# Altium footprint library AMS_LV.PcbLib: 24 footprints (part 2 of 2)
Each footprint in its own frame and in the unit in brackets; x right, y up, seen from the top. Pads: shape width x height; smd on the part's side, far side on the other; paste and mask are expansions set on the pad; w line width, h text height; cw(c..) or ccw(c..) is an arc to the next point about the centre after c.
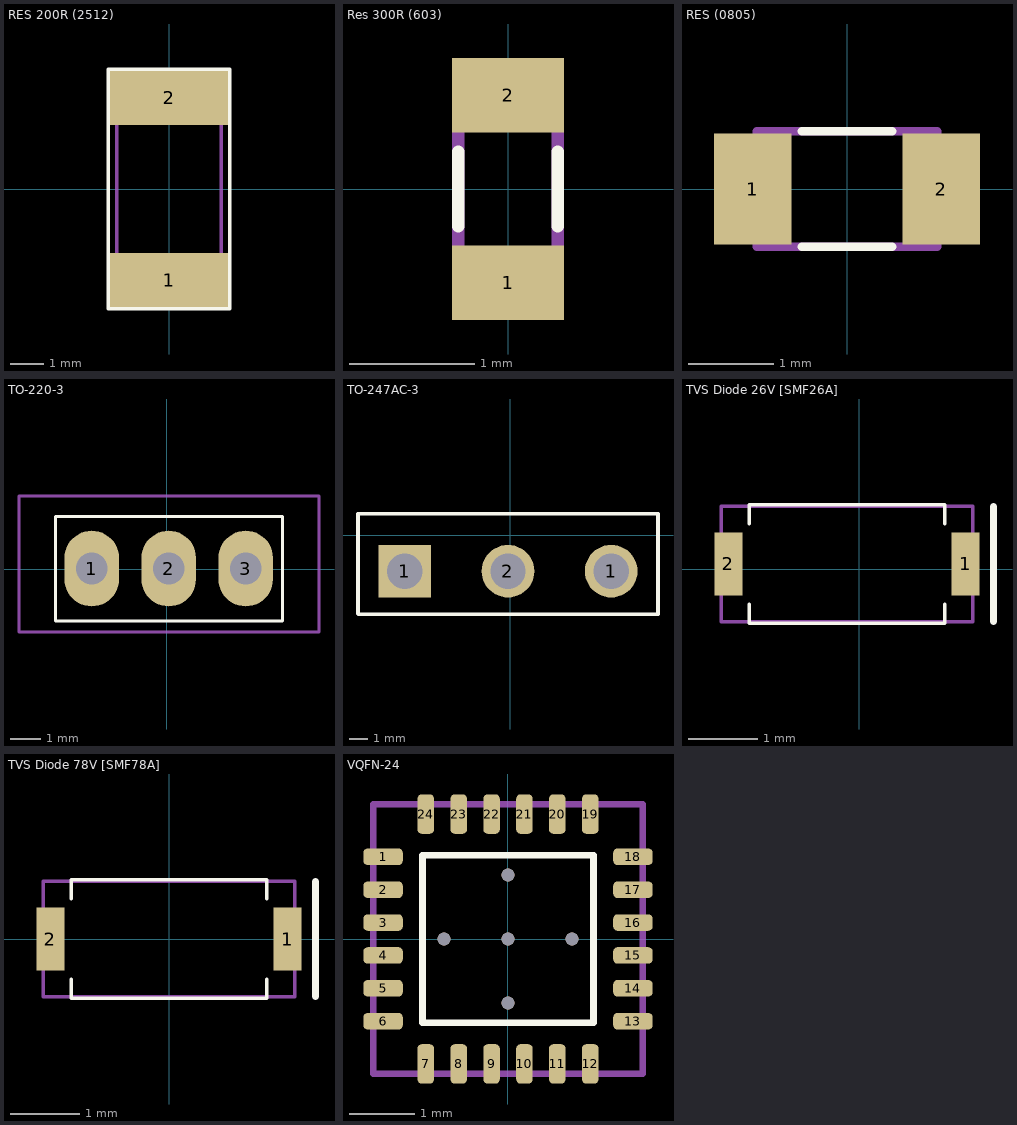
[diagram p1: the footprints below, top view; thin cyan lines are the x and y axes]

## RES 200R (2512) [mm]
pads (2):
  rect 3.5x1.6 smd: 1(0,-2.7) 2(0,2.7)
Top Overlay:
  lines w0.1: -1.8,-3.55 1.8,-3.55 1.8,3.55 0.937,3.55 -0.787,3.55 -1.8,3.55 -1.8,-3.55
Mechanical 13:
  lines w0.1: -1.55,3.15 -1.55,3.15 ; -1.55,3.15 1.55,3.15 1.55,-3.15 -1.55,-3.15 -1.55,3.15
3D body "crm2512-jw-201elf.stp": height -0.05, standoff -0.65, extent -1.55,-3.15 1.55,3.15

## Res 300R (603) [mm]
pads (2):
  rect 0.9x0.6 smd: 1(0,-0.75) 2(0,0.75)
Top Overlay:
  lines w0.1: -0.4,-0.3 -0.4,0.3 ; 0.4,-0.3 0.4,0.3
Mechanical 13:
  lines w0.1: -0.4,-0.8 -0.4,0.8 0.4,0.8 0.4,-0.8 -0.4,-0.8
3D body "cr0603-fx-3000elf.stp": height 0.45, standoff 0, extent -0.4,-0.8 0.4,0.8

## RES (0805) [mm]
pads (2):
  rect 0.9x1.3 smd: 1(-1.1,0) 2(1.1,0)
Top Overlay:
  lines w0.1: -0.525,-0.675 0.525,-0.675 ; -0.525,0.675 0.525,0.675
Mechanical 13:
  lines w0.1: -1.05,-0.675 1.05,-0.675 1.05,0.675 -1.05,0.675 -1.05,-0.675
3D body "RESC-0805.stp": height 0.6, standoff 0, extent -1.05,-0.675 1.05,0.675

## TO-220-3 [mm]
pads (3):
  oval 1.8x2.5 hole 1.05: 1(-2.475,0.025) 2(0.065,0.025) 3(2.605,0.025)
Top Overlay:
  lines w0.1: -3.675,-1.7 3.825,-1.7 3.825,1.75 -3.675,1.75 -3.675,-1.7
Mechanical 13:
  lines w0.1: -4.875,-2.075 -4.875,2.425 5.025,2.425 5.025,-2.075 -4.875,-2.075
3D body "ALSRobot-TO-220-3.step": height 19.8, standoff -8.98, extent -4.885,-2.075 5.015,2.425

## TO-247AC-3 [mm]
pads (3):
  rect 2.79x2.79 hole 1.86: 1(-5.588,-1.905)
  round 2.79 hole 1.86: 1(5.332,-1.905) 2(-0.128,-1.905)
Top Overlay:
  lines w0.2: -8.063,-4.15 -8.063,1.13 7.807,1.13 7.807,-4.18 -8.033,-4.18
Mechanical 13:
  lines w0.1: -8.063,-4.18 -8.063,1.13 7.807,1.13 7.807,-4.18 -8.063,-4.18
3D body "VS-40CPQ045-N3.stp": height 24.21, standoff -40.41, extent -7.918,-4.18 7.662,1.13

## TVS Diode 26V [SMF26A] [mm]
pads (2):
  rect 0.4x0.9 smd: 1(1.525,0.075) 2(-1.875,0.075)
Top Overlay:
  lines w0.05: -1.575,-0.775 1.225,-0.775 ; -1.575,-0.75 -1.575,-0.5 ; -1.575,0.65 -1.575,0.9 ; -1.575,0.925 1.225,0.925 ; 1.225,-0.75 1.225,-0.5 ; 1.225,0.65 1.225,0.9
  lines w0.1: 1.925,-0.75 1.925,0.9
Mechanical 13:
  lines w0.05: -1.975,-0.75 -1.975,0.9 1.625,0.9 1.625,-0.75 -1.975,-0.75
3D body "User Library-SOD-123FL.step": height 0.95, standoff 0.01, extent -1.969,-0.75 1.619,0.9

## TVS Diode 78V [SMF78A] [mm]
pads (2):
  rect 0.4x0.9 smd: 1(1.7,0) 2(-1.7,0)
Top Overlay:
  lines w0.05: -1.4,-0.85 1.4,-0.85 ; -1.4,-0.825 -1.4,-0.575 ; -1.4,0.575 -1.4,0.825 ; -1.4,0.85 1.4,0.85 ; 1.4,-0.825 1.4,-0.575 ; 1.4,0.575 1.4,0.825
  lines w0.1: 2.1,-0.825 2.1,0.825
Mechanical 13:
  lines w0.05: -1.8,-0.825 -1.8,0.825 1.8,0.825 1.8,-0.825 -1.8,-0.825
3D body "User Library-SOD-123FL.step": height 0.95, standoff 0.01, extent -1.794,-0.825 1.794,0.825

## VQFN-24 [mm]
pads (24):
  rrect50% 0.6x0.25 smd: 1(-1.9,1.25) 2(-1.9,0.75) 3(-1.9,0.25) 4(-1.9,-0.25) 5(-1.9,-0.75) 6(-1.9,-1.25) 13(1.9,-1.25) 14(1.9,-0.75) 15(1.9,-0.25) 16(1.9,0.25) 17(1.9,0.75) 18(1.9,1.25)
  rrect50% 0.25x0.6 smd: 7(-1.25,-1.9) 8(-0.75,-1.9) 9(-0.25,-1.9) 10(0.25,-1.9) 11(0.75,-1.9) 12(1.25,-1.9) 19(1.25,1.9) 20(0.75,1.9) 21(0.25,1.9) 22(-0.25,1.9) 23(-0.75,1.9) 24(-1.25,1.9)
via 0.975,0 diameter 0.2 hole 0.2
via 0,-0.975 diameter 0.2 hole 0.2
via -0.975,0 diameter 0.2 hole 0.2
via 0,0 diameter 0.2 hole 0.2
via 0,0.975 diameter 0.2 hole 0.2
Top Overlay:
  lines w0.1: -1.3,-1.275 1.3,-1.275 1.3,1.275 -1.3,1.275 -1.3,-1.275
Mechanical 13:
  lines w0.1: -2.05,-2.05 2.05,-2.05 2.05,2.05 -2.05,2.05 -2.05,-2.05
3D body "User Library-VQFN-24.step": height -0.06, standoff -1.13, extent -2.05,-2.05 2.05,2.05